# Altium footprint library DashBoard_PcbLib.PcbLib: 8 footprints
Each footprint in its own frame and in the unit in brackets; x right, y up, seen from the top. Pads: shape width x height; smd on the part's side, far side on the other; paste and mask are expansions set on the pad; w line width, h text height; cw(c..) or ccw(c..) is an arc to the next point about the centre after c.
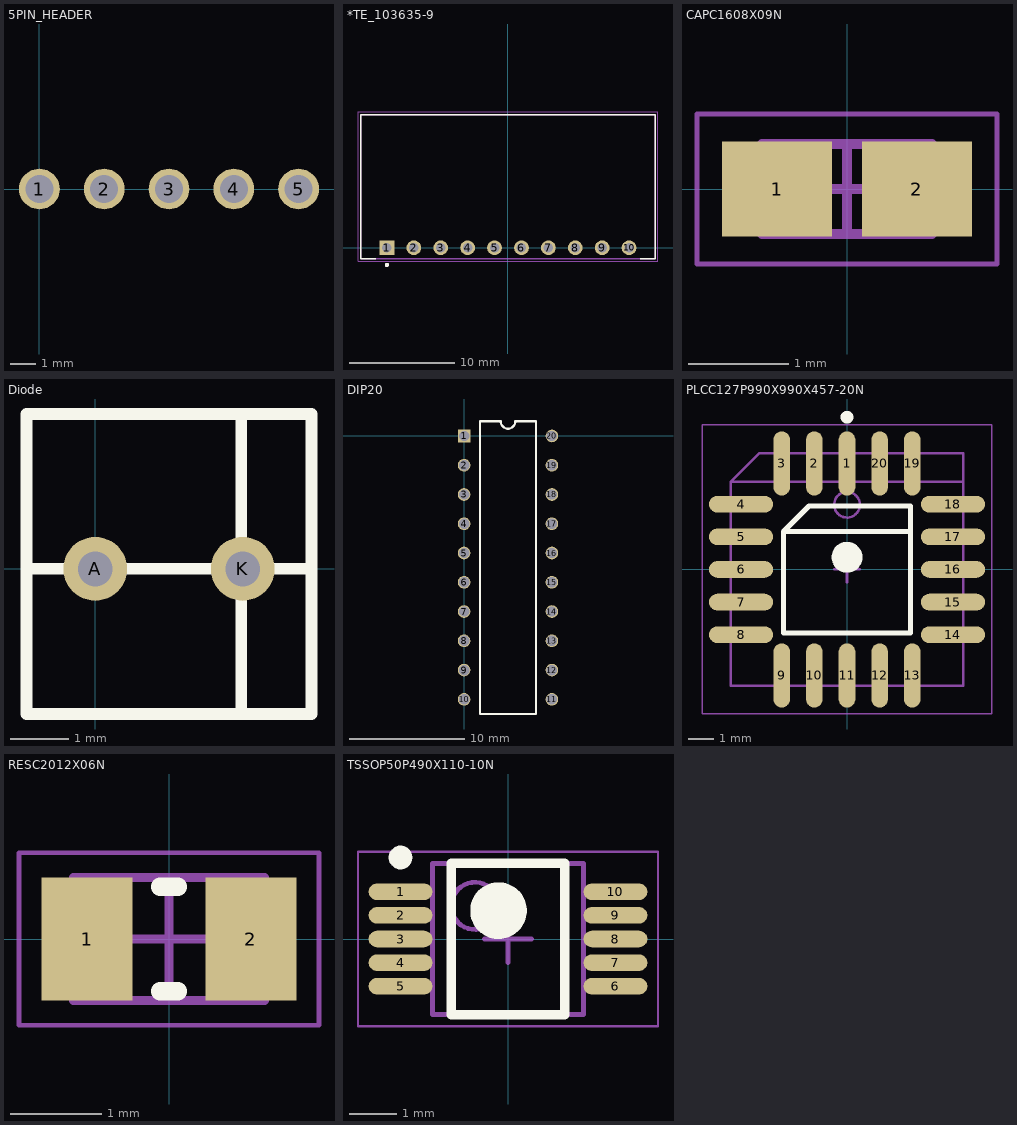
[diagram p0: the footprints below, top view; thin cyan lines are the x and y axes]

## 5PIN_HEADER [mm]
pads (5):
  round 1.6 hole 1.1: 1(0,0) 2(2.54,0) 3(5.08,0) 4(7.62,0) 5(10.16,0)
3D body "Pin Header 1x5 TH Pitch 2.54mm.stp": height 9.5, standoff -3.2, extent -1.27,-1.27 11.43,1.27

## *TE_103635-9 [mm]
pads (10):
  rect 1.398x1.398 hole 0.89: 1(-11.43,0)
  round 1.398 hole 0.89: 2(-8.89,0) 3(-6.35,0) 4(-3.81,0) 5(-1.27,0) 6(1.27,0) 7(3.81,0) 8(6.35,0) 9(8.89,0) 10(11.43,0)
Top Overlay:
  circle w0.2: c-11.43,-1.62 r0.1
  lines w0.127: -12.486,-1.02 -13.91,-1.02 -13.91,12.57 13.91,12.57 13.91,-1.02 12.486,-1.02
Mechanical 4:
  circle w0.2: c-11.43,-1.62 r0.1
  circle w0.2: c-11.43,-1.62 r0.1
  lines w0.127: -13.91,-1.02 -13.91,12.57 ; -13.91,-1.02 13.91,-1.02 ; -13.91,-1.02 -13.91,12.57 ; -13.91,-1.02 13.91,-1.02 ; -13.91,12.57 13.91,12.57 ; -13.91,12.57 13.91,12.57 ; 13.91,-1.02 13.91,12.57 ; 13.91,-1.02 13.91,12.57
Mechanical 16:
  lines w0.05: -14.16,-1.27 14.16,-1.27 14.16,12.82 -14.16,12.82 -14.16,-1.27
3D body: height 0.25, standoff -11.8, extent -13.716,-0.889 -13.716,-0.889
3D body: height 0.25, standoff -11.8, extent -13.716,-0.889 -13.716,-0.889
3D body "c-103635-9-t-3d.stp": height 7.36, standoff -2.92, extent -13.905,-1.017 13.905,12.573

## CAPC1608X09N [mm] "Chip Capacitor, 2-Leads, Body 1.60x0.80mm, IPC Medium Density"
height 0.9
pads (2):
  rect 1.1x0.95 smd: 1(-0.7,0) 2(0.7,0)
Mechanical 13:
  lines w0.1: -0.85,-0.45 -0.85,0.45 0.85,0.45 0.85,-0.45 -0.85,-0.45
Mechanical 15:
  lines w0.05: -1.5,-0.75 -1.5,0.75 1.5,0.75 1.5,-0.75 -1.5,-0.75
  lines w0.1: -0.45,0 0.45,0 ; 0,-0.45 0,0.45
3D body "CAPC1608X09N.step": height 0.9, standoff 0, extent -0.85,-0.45 0.85,0.45

## Diode [mm]
pads (2):
  round 1.1 hole 0.6: A(0,0) K(2.54,0)
Top Overlay:
  lines w0.2: -1.185,0 1.44,0 ; 1.1,0 3.725,0 ; 2.512,-2.373 2.512,2.627 ; 3.725,0 3.725,-2.5 -1.185,-2.5 -1.185,2.667 3.725,2.667 3.725,0

## DIP20 [mm]
pads (20):
  rect 1.1x1.1 hole 0.9: 1(0,0)
  round 1.1 hole 0.9: 2(0,-2.54) 3(0,-5.08) 4(0,-7.62) 5(0,-10.16) 6(0,-12.7) 7(0,-15.24) 8(0,-17.78) 9(0,-20.32) 10(0,-22.86) 11(7.62,-22.86) 12(7.62,-20.32) 13(7.62,-17.78) 14(7.62,-15.24) 15(7.62,-12.7) 16(7.62,-10.16) 17(7.62,-7.62) 18(7.62,-5.08) 19(7.62,-2.54) 20(7.62,0)
Top Overlay:
  lines w0.2: 1.385,-24.13 1.385,1.27 3.175,1.27 ccw(c3.81,1.27) 4.445,1.27 6.235,1.27 6.235,-24.13 1.385,-24.13
3D body "LTA-1000KR.stp": height 8, standoff -3.8, extent -1.138,-23.982 9.012,1.27

## PLCC127P990X990X457-20N [mm] "Leaded Chip Carrier, 20-Leads, Body 9.91x9.91mm, Pitch 1.270mm, IPC Medium Density"
height 4.57
pads (20):
  oval 0.65x2.5 smd: 1(0,4.125) 2(-1.27,4.125) 3(-2.54,4.125) 9(-2.54,-4.125) 10(-1.27,-4.125) 11(0,-4.125) 12(1.27,-4.125) 13(2.54,-4.125) 19(2.54,4.125) 20(1.27,4.125)
  oval 2.5x0.65 smd: 4(-4.125,2.54) 5(-4.125,1.27) 6(-4.125,0) 7(-4.125,-1.27) 8(-4.125,-2.54) 14(4.125,-2.54) 15(4.125,-1.27) 16(4.125,0) 17(4.125,1.27) 18(4.125,2.54)
Top Overlay:
  circle w0.6: c0,0.475 r0.3
  circle w0.25: c0,5.925 r0.125
  lines w0.2: 2.475,1.475 -2.475,1.475 ; -2.475,1.475 -2.475,-2.475 2.475,-2.475 2.475,2.475 -1.475,2.475 -2.475,1.475
Mechanical 13:
  circle w0.1: c0,2.52 r0.5
  lines w0.1: 4.52,3.42 -4.52,3.42 ; -4.52,3.42 -3.42,4.52 4.52,4.52 4.52,-4.52 -4.52,-4.52 -4.52,3.42
Mechanical 15:
  lines w0.05: -5.625,-5.625 5.625,-5.625 5.625,5.625 -5.625,5.625 -5.625,-5.625
  lines w0.1: -0.5,0 0.5,0 ; 0,-0.5 0,0.5
3D body "PLCC127P990X990X457-20N.step": height 4.57, standoff 0, extent -5.152,-5.406 5.153,4.899

## RESC2012X06N [mm] "Chip Resistor, 2-Leads, Body 2.00x1.25mm, IPC Medium Density"
height 0.6
pads (2):
  rect 1x1.35 smd: 1(-0.9,0) 2(0.9,0)
Top Overlay:
  lines w0.2: -0.1,-0.575 0.1,-0.575 ; -0.1,0.575 0.1,0.575
Mechanical 13:
  lines w0.1: -1.05,-0.675 1.05,-0.675 1.05,0.675 -1.05,0.675 -1.05,-0.675
Mechanical 15:
  lines w0.05: -1.65,-0.95 1.65,-0.95 1.65,0.95 -1.65,0.95 -1.65,-0.95
  lines w0.1: -0.5,0 0.5,0 ; 0,-0.5 0,0.5
3D body "RESC2012X06N.step": height 0.6, standoff 0, extent -1.05,-0.675 1.05,0.675

## TSSOP50P490X110-10N [mm] "TSSOP, 10-Leads, Body 3.00x3.00mm, Pitch 0.50mm, IPC Medium Density"
height 1.1
pads (10):
  oval 1.35x0.35 smd: 1(-2.275,1) 2(-2.275,0.5) 3(-2.275,0) 4(-2.275,-0.5) 5(-2.275,-1) 6(2.275,-1) 7(2.275,-0.5) 8(2.275,0) 9(2.275,0.5) 10(2.275,1)
Top Overlay:
  circle w0.6: c-0.2,0.6 r0.3
  circle w0.25: c-2.275,1.725 r0.125
  lines w0.2: -1.2,-1.6 1.2,-1.6 1.2,1.6 -1.2,1.6 -1.2,-1.6
Mechanical 13:
  circle w0.1: c-0.7,0.7 r0.5
  lines w0.1: -1.6,-1.6 1.6,-1.6 1.6,1.6 -1.6,1.6 -1.6,-1.6
Mechanical 15:
  lines w0.05: -3.175,-1.85 3.175,-1.85 3.175,1.85 -3.175,1.85 -3.175,-1.85
  lines w0.1: -0.5,0 0.5,0 ; 0,-0.5 0,0.5
3D body "TSSOP50P490X110-10N.step": height 1.1, standoff 0, extent -2.45,-1.6 2.45,1.6